# EAGLE library part RADIO_RFM69W_MIN_PAD (library TD-MySensors)
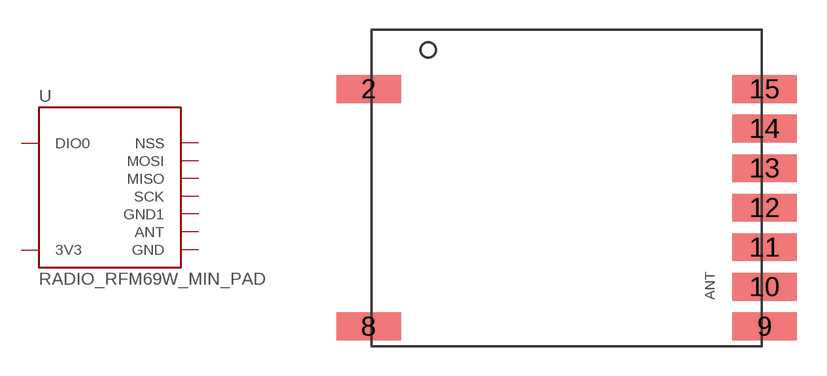
[diagram p4: symbol with the pads of RFM69W_MIN_PAD; footprint RFM69W_MIN_PAD]

Designator prefix -

## RADIO_RFM69W_MIN_PAD  [RFM69W_MIN_PAD]
2  DIO0
8  3V3  pwr
9  GND  pwr
10  ANT
11  GND1  pwr
12  SCK
13  MISO
14  MOSI
15  NSS

## Footprint RFM69W_MIN_PAD (pad centres in mm)
Radio module based on the RFM69 chip from HopeRF
smd 3.25 x 1.4: 2 -10,5; 8 -10,-7; 9 10,-7; 10 10,-5; 11 10,-3; 12 10,-1; 13 10,1; 14 10,3; 15 10,5